# EAGLE library part REGLER_MC33063AD (library 1_Robo-Lib)
1.5-A Peak Boost/Buck/Inverting Switching Regulator The MC33063A and MC34063A are easy-to-use ICs containing all the primary circuitry needed for building simple dc-dc converters. These devices primarily consist of an internal temperature-compensated reference, a comparator, an oscillator, a PWM controller with active current limiting, a driver, and a high-current output switch. Thus, the devices require minimal external components to build converters in the boost, buck, and inverting topologies.
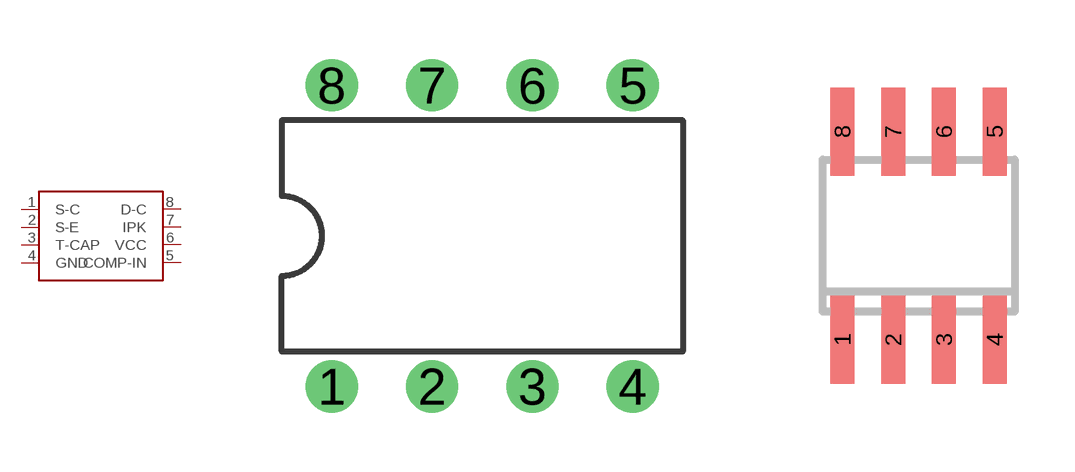
[diagram p12: symbol with the pads of REGLER_DIL08; footprints REGLER_DIL08, REGLER_SO08]

Designator prefix -

## REGLER_MC33063ADDIL8  [REGLER_DIL08]
1  S-C
2  S-E
3  T-CAP
4  GND  pwr
5  COMP-IN
6  VCC  pwr
7  IPK
8  D-C

## REGLER_MC33063ADSO8  [REGLER_SO08]
Pads as for REGLER_DIL08

## Footprint REGLER_DIL08 (pad centres in mm)
Dual In Line Package
drill 0.813 pad 1.27: 1 -3.81,-3.81; 2 -1.27,-3.81; 3 1.27,-3.81; 4 3.81,-3.81; 5 3.81,3.81; 6 1.27,3.81; 7 -1.27,3.81; 8 -3.81,3.81

## Footprint REGLER_SO08 (pad centres in mm)
Small Outline Package 8 NS Package M08A
smd 0.6 x 2.2: 1 -1.905,-2.6; 2 -0.635,-2.6; 3 0.635,-2.6; 4 1.905,-2.6; 5 1.905,2.6; 6 0.635,2.6; 7 -0.635,2.6; 8 -1.905,2.6